# Altium footprint library 器件封装.PCBLIB: 225 footprints (part 2 of 15)
Each footprint in its own frame and in the unit in brackets; x right, y up, seen from the top. Pads: shape width x height; smd on the part's side, far side on the other; paste and mask are expansions set on the pad; w line width, h text height; cw(c..) or ccw(c..) is an arc to the next point about the centre after c.
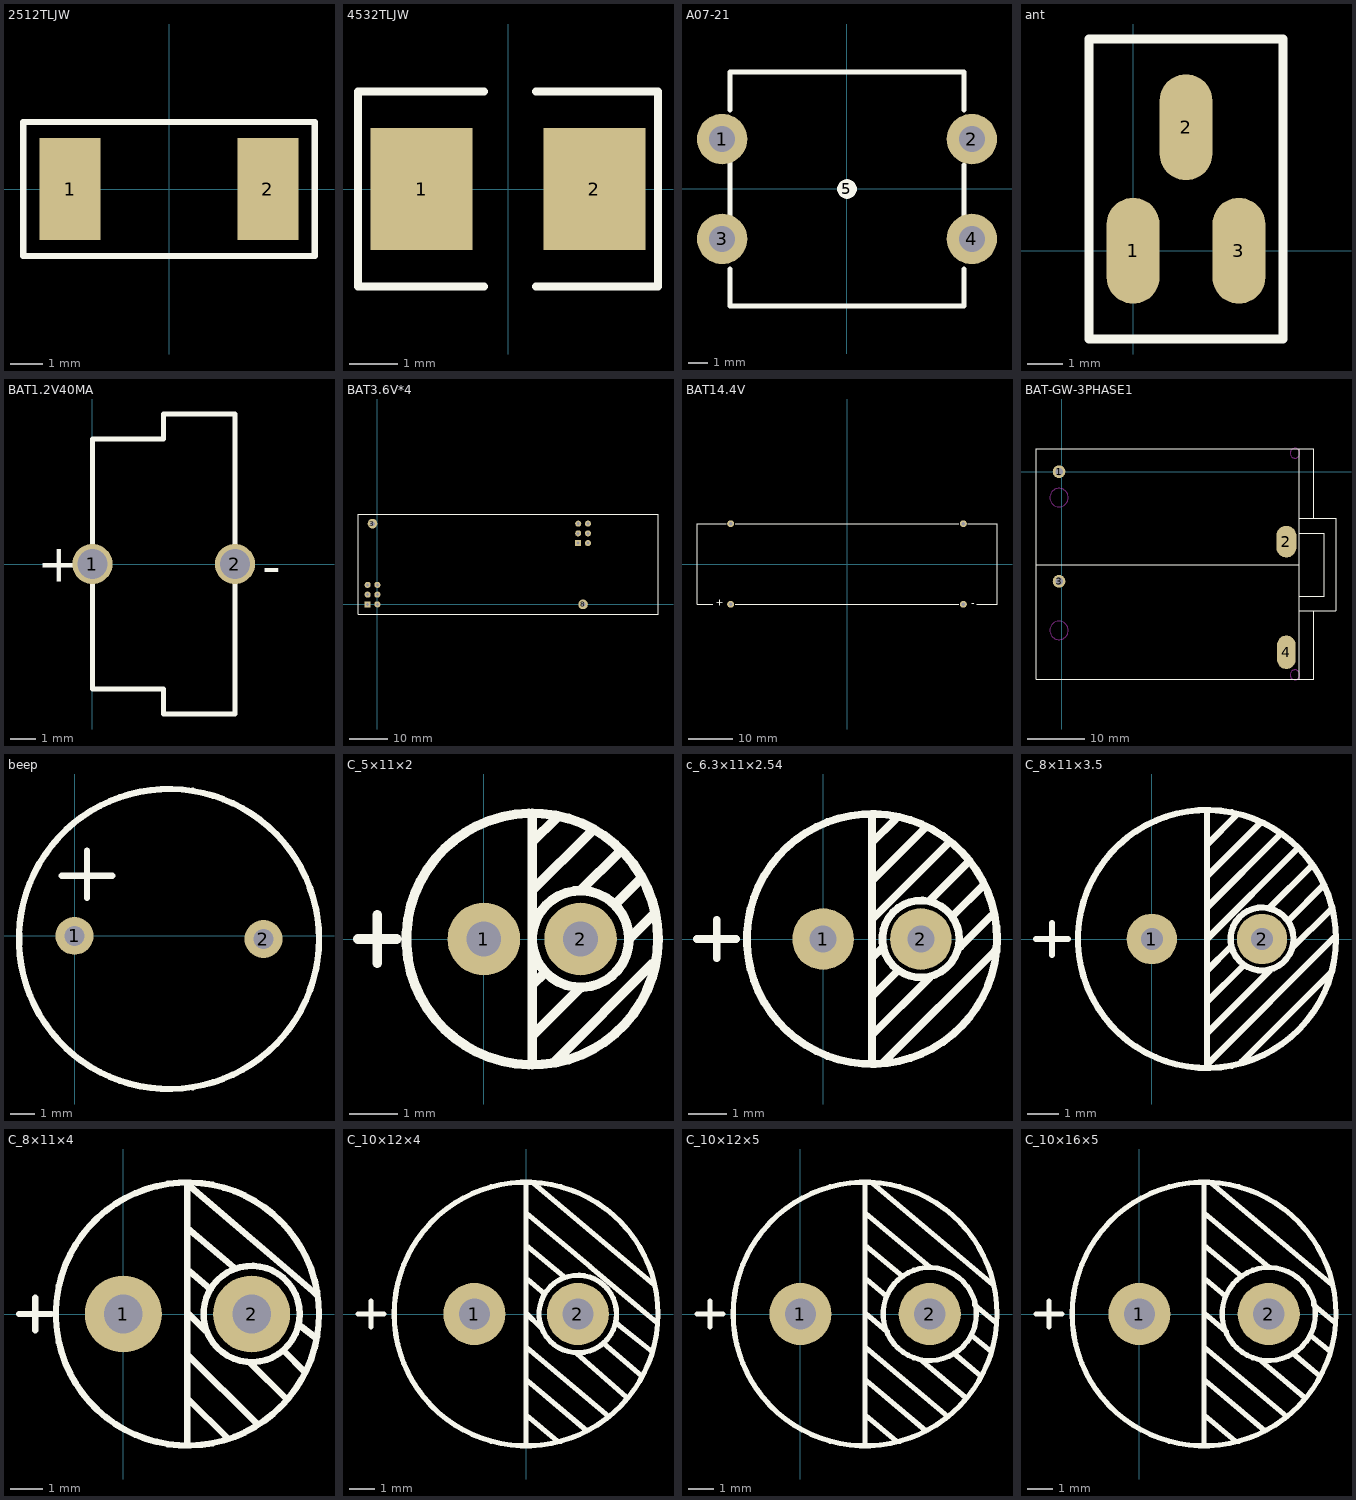
[diagram p1: the footprints below, top view; thin cyan lines are the x and y axes]

## 2512TLJW [mm]
pads (2):
  rect 1.9x3.2 smd: 1(-3.1,0) 2(3.1,0)
TopOverlay:
  lines w0.2: -4.572,-2.1 4.572,-2.1 4.572,2.1 -4.572,2.1 -4.572,-2.1

## 4532TLJW [mm]
pads (2):
  rect 2.132x2.54 smd: 1(-1.8,0) 2(1.8,0)
TopOverlay:
  lines w0.17: -0.5,-2.032 -3.124,-2.032 -3.124,2.032 -0.5,2.032 ; 0.584,-2.032 3.124,-2.032 3.124,2.032 0.584,2.032

## A07-21 [mm]
pads (5):
  round 2.524 hole 1.3: 1(-6.25,2.5) 2(6.25,2.5) 3(-6.25,-2.5) 4(6.25,-2.5)
  round 1 on Top Overlay: 5(0,0)
TopOverlay:
  lines w0.254: -5.85,-4 -5.85,-5.85 5.85,-5.85 5.85,-4 ; -5.85,-1.3 -5.85,1.4 ; -5.85,3.95 -5.85,5.85 5.85,5.85 5.85,3.95 ; 5.85,-1.3 5.85,1.2

## ant [mm]
pads (3):
  oval 1.5x3 smd: 1(0,0) 2(1.5,3.5) 3(3,0)
TopOverlay:
  lines w0.254: -1.25,-2.5 -1.25,6 4.25,6 4.25,-2.5 -1.25,-2.5

## BAT1.2V40MA [mm]
pads (2):
  round 1.6 hole 1.2: 1(0,0) 2(5.7,0)
TopOverlay:
  lines w0.2: 0,-5 0,5 2.85,5 2.85,6 5.7,6 5.7,-6 2.85,-6 2.85,-5 0,-5
  text "+" at -2.2,-0.7 h1.52
  text "-" at 6.8,-0.8 h1.52

## BAT3.6V*4 [mil]
pads (14):
  round 62 hole 30: 1(0,0) 1(0,100) 1(0,200) 2(-100,100) 2(-100,200) 5(2055.51,726.77) 6(2055.91,826.77) 7(2155.51,626.77) 7(2155.51,726.77) 7(2155.51,826.77)
  rect 62x62 hole 30: 2(-100,0) 4(2055.51,626.77)
  round 98.42 hole 47.24: 3(-50,826.77) 8(2105.51,0)
TopOverlay:
  lines w7.87: -198.43,-98.42 -198.43,925.2 2872.44,925.2 2872.44,-98.42 -198.43,-98.42

## BAT14.4V [mil]
pads (4):
  round 60 hole 30: 1(-1023.62,-354.33) 2(-1023.62,354.33) 3(1023.62,354.33) 4(1023.62,-354.33)
TopOverlay:
  lines w5.91: -1181.1,-354.33 -1318.9,-354.33 -1318.9,354.33 -1062.99,354.33 ; -984.25,-354.33 984.25,-354.33 ; -984.25,354.33 984.25,354.33 ; 1062.99,354.33 1318.9,354.33 1318.9,-354.33 1141.73,-354.33
  text "-" at 1122.05,-326.77 h60
  text "+" at -1090.55,-374.02 h60

## BAT-GW-3PHASE1 [mm]
pads (4):
  round 2.2 hole 1.3: 1(-0.44,0) 3(-0.44,-19)
  oval 3.5x5.5 all layers, no hole: 2(38.963,-12.124)
  oval 3.2x5.8 all layers, no hole: 4(38.952,-31.292)
TopOverlay:
  lines w0.127: -4.44,-16.15 41.16,-16.15 ; 41.16,-36 -4.44,-36 -4.44,4 41.16,4 ; 41.21,-24.125 47.535,-24.125 ; 41.21,-21.6 45.56,-21.6 45.56,-10.65 41.21,-10.65 ; 41.21,-8.1 47.56,-8.1 47.56,-23.6 47.56,-24.1 ; 43.71,-24.15 43.71,-36 41.21,-36 41.21,4 43.71,4 43.71,-8.1
KeepOutLayer:
  circle w0.127: c-0.44,-4.5 r1.6
  circle w0.127: c40.46,3.2 r0.85
  circle w0.127: c40.46,-35.2 r0.85
  circle w0.127: c-0.44,-27.5 r1.6
  lines w0.1: 38.257,-29.996 cw(c38.952,-30.392) 39.646,-29.996 ; 38.257,-29.995 38.257,-32.589 ccw(c38.952,-32.192) 39.646,-32.589 39.646,-29.995 ; 38.268,-13.421 ccw(c38.963,-13.024) 39.657,-13.421 39.657,-10.827 ccw(c38.963,-11.224) 38.268,-10.828 38.268,-13.421

## beep [mil]
height 374.02
pads (2):
  round 60 hole 31.5: 1(0,0) 2(299.21,-5)
TopOverlay:
  circle w10: c149.61,-5 r237.54
  lines w10: -20.39,95 59.61,95 ; 19.61,60 19.61,135

## C_5×11×2 [mm]
pads (2):
  round 1.5 hole 0.72: 1(0,0) 2(2,0)
TopOverlay:
  circle w0.2: c2,0 r1
  circle w0.2: c1,0 r2.6
  lines w0.2: -2.6,0 -1.8,0 ; -2.2,-0.5 -2.2,0.5 ; 1,-2.6 1,2.6 ; 1,-2 2,-1 ; 1,-0.95 1.25,-0.7 ; 1,1 2.2,2.2 ; 1,2 1.5,2.5 ; 1.45,-2.55 3.5,-0.5 ; 2,1 2.8,1.8 ; 2.75,0.75 3.2,1.2 ; 3,0 3.5,0.5

## c_6.3×11×2.54 [mm]
pads (2):
  round 1.6 hole 0.7: 1(0,0) 2(2.54,0)
TopOverlay:
  circle w0.2: c1.27,0 r3.25
  circle w0.2: c2.54,0 r1
  lines w0.2: -3.276,0 -2.26,0 ; -2.76,-0.5 -2.76,0.5 ; 1.27,-3.25 1.27,3.25 ; 1.27,-2.5 2.77,-1 ; 1.27,-1.5 1.92,-0.85 ; 1.27,-0.5 1.57,-0.2 ; 1.27,0.5 3.27,2.5 ; 1.27,1.5 2.67,2.9 ; 1.27,2.5 1.87,3.1 ; 1.57,-3.2 4.47,-0.3 ; 2.77,1 3.77,2 ; 3.37,0.6 4.17,1.4 ; 3.57,-0.2 4.37,0.6

## C_8×11×3.5 [mm]
pads (2):
  round 1.6 hole 0.7: 1(0,0) 2(3.5,0)
TopOverlay:
  circle w0.2: c3.5,0 r1
  circle w0.2: c1.75,0 r4.1
  lines w0.2: -3.683,0 -2.667,0 ; -3.175,-0.508 -3.175,0.508 ; 1.75,-4.1 1.75,4.1 ; 1.75,-4 5.8,0.05 ; 1.75,-3 3.75,-1 ; 1.75,-2 2.9,-0.85 ; 1.75,-1 2.5,-0.25 ; 1.75,0 4.65,2.9 ; 1.75,1 4.05,3.3 ; 1.75,2 3.45,3.7 ; 1.75,3 2.7,3.95 ; 2.85,-3.9 5.65,-1.1 ; 3.75,1 5.05,2.3 ; 4.35,0.6 5.45,1.7 ; 4.45,-0.3 5.65,0.9

## C_8×11×4 [mm]
pads (2):
  round 2.4 hole 1.2: 1(0,0) 2(4,0)
TopOverlay:
  circle w0.2: c4,0 r1.5
  circle w0.2: c2,0 r4.1
  lines w0.2: -3.25,0 -2.25,0 ; -2.75,-0.5 -2.75,0.5 ; 1.99,4.05 6.004,0.617 ; 1.993,2.674 3.449,1.453 ; 2,-4 2,4.03 ; 2.014,-2.644 3.27,-3.89 ; 2.02,0.015 2.57,-0.53 ; 2.044,-1.311 4.14,-3.4 ; 2.06,1.338 2.73,0.77 ; 3.96,-1.53 5.1,-2.66 ; 5,-1.14 5.66,-1.81 ; 5.53,-0.38 6,-0.74

## C_10×12×4 [mm]
pads (2):
  round 2.4 hole 1.2: 1(-2,0) 2(2,0)
TopOverlay:
  circle w0.2: c2,0 r1.5
  circle w0.2: c0,0 r5.1
  lines w0.2: -6.5,0 -5.5,0 ; -6,-0.5 -6,0.5 ; -0.007,2.674 1.449,1.453 ; 0,-5.08 0,5.08 ; 0.02,0.015 0.57,-0.53 ; 0.021,3.89 2.496,1.814 ; 0.031,-3.924 1.211,-4.914 ; 0.044,-1.311 3.2,-3.959 ; 0.06,1.338 0.73,0.77 ; 0.064,-2.594 2.354,-4.516 ; 0.289,5.049 4.939,1.148 ; 1.96,-1.53 3.873,-3.219 ; 2.47,1.84 5.054,-0.333 ; 3,-1.14 4.475,-2.392 ; 3.53,-0.38 4.869,-1.456

## C_10×12×5 [mm]
pads (2):
  round 2.4 hole 1.2: 1(0,0) 2(5,0)
TopOverlay:
  circle w0.2: c5,0 r1.8
  circle w0.2: c2.5,0 r5.1
  lines w0.2: -4,0 -3,0 ; -3.5,-0.5 -3.5,0.5 ; 2.493,2.674 3.949,1.453 ; 2.5,-5.08 2.5,5.08 ; 2.52,0.015 3.355,-0.686 ; 2.522,3.89 4.996,1.814 ; 2.531,-3.924 3.711,-4.914 ; 2.544,-1.311 5.7,-3.959 ; 2.56,1.338 3.326,0.696 ; 2.564,-2.594 4.854,-4.516 ; 2.789,5.049 7.439,1.148 ; 4.726,-1.837 6.373,-3.219 ; 5.933,-1.518 6.975,-2.392 ; 6.641,-0.846 7.369,-1.456 ; 6.735,0.355 7.554,-0.333

## C_10×16×5 [mm]
pads (2):
  round 2.4 hole 1.2: 1(0,0) 2(5,0)
TopOverlay:
  circle w0.2: c2.5,0 r5.1
  circle w0.2: c5,0 r1.8
  lines w0.2: -4,0 -3,0 ; -3.5,-0.5 -3.5,0.5 ; 2.493,2.674 3.949,1.453 ; 2.5,-5.08 2.5,5.08 ; 2.52,0.015 3.355,-0.686 ; 2.522,3.89 4.996,1.814 ; 2.531,-3.924 3.711,-4.914 ; 2.544,-1.311 5.7,-3.959 ; 2.56,1.338 3.326,0.696 ; 2.564,-2.594 4.854,-4.516 ; 2.789,5.049 7.439,1.148 ; 4.726,-1.837 6.373,-3.219 ; 5.933,-1.518 6.975,-2.392 ; 6.641,-0.846 7.369,-1.456 ; 6.735,0.355 7.554,-0.333